# EAGLE library part MICROMATCH-6 (library con-amp-micromatch)
MicroMaTch 6 7-215464-6 / 0-215464-6 Drawing Number C-215464 DDEController.pdf
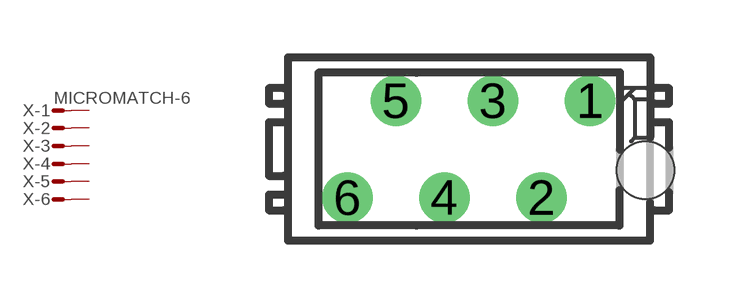
[diagram p7: symbol with the pads of MICROMATCH-6; footprint MICROMATCH-6]

Designator prefix X; gates -1=MV -2=M -3=M -4=M -5=M -6=M

## MICROMATCH-6 (MPN: 7-215464-6; OC_FARNELL: 3784630; OC_NEWARK: 19R8125)  [MICROMATCH-6]
1  -1:S  pas
2  -2:S  pas
3  -3:S  pas
4  -4:S  pas
5  -5:S  pas
6  -6:S  pas

## Footprint MICROMATCH-6 (pad centres in mm)
MicroMaTch 6 7-215464-6 / 0-215464-6 Drawing Number C-215464 DDEController.pdf
drill 0.813: 1 3.175,1.27; 2 1.905,-1.27; 3 0.635,1.27; 4 -0.635,-1.27; 5 -1.905,1.27; 6 -3.175,-1.27
hole 1.5 at 4.63,-0.55